# Altium footprint library SFM-115-01-L-D-LC.PcbLib: 1 footprints
Each footprint in its own frame and in the unit in brackets; x right, y up, seen from the top. Pads: shape width x height; smd on the part's side, far side on the other; paste and mask are expansions set on the pad; w line width, h text height; cw(c..) or ccw(c..) is an arc to the next point about the centre after c.
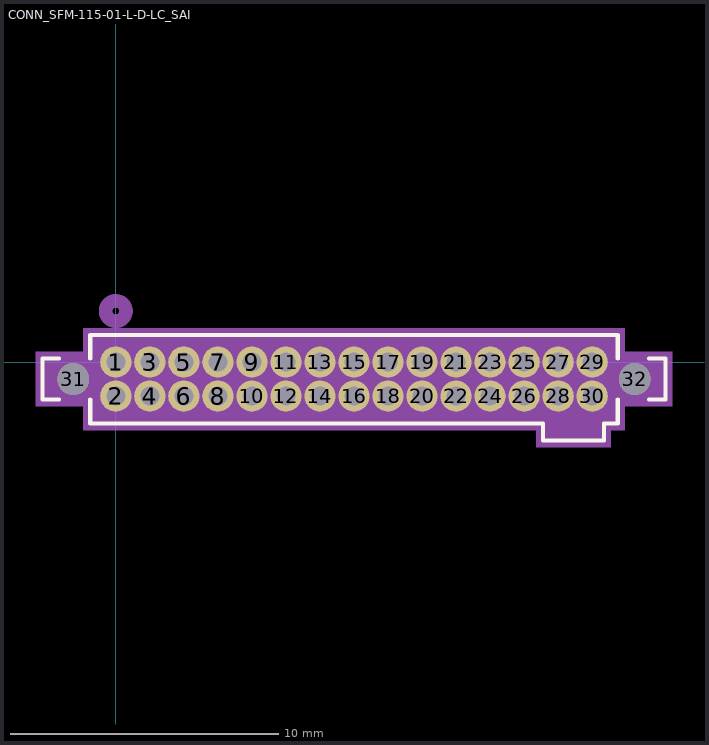
[diagram p0: the footprint, top view; thin cyan lines are the x and y axes]

## CONN_SFM-115-01-L-D-LC_SAI [mil]
pads (32):
  round 46 hole 28 mask+0: 1(0,0) 2(0,-50) 3(50,0) 4(50,-50) 5(100,0) 6(100,-50) 7(150,0) 8(150,-50) 9(200,0) 10(200,-50) 11(250,0) 12(250,-50) 13(300,0) 14(300,-50) 15(350,0) 16(350,-50) 17(400,0) 18(400,-50) 19(450,0) 20(450,-50) 21(500,0) 22(500,-50) 23(550,0) 24(550,-50) 25(600,0) 26(600,-50) 27(650,0) 28(650,-50) 29(700,0) 30(700,-50)
  round 47 hole 47 unplated: 31(-62.5,-25) 32(762.5,-25)
Top Overlay:
  lines w6: -83.47,-55 -107.5,-55 -107.5,5 -83.47,5 ; -37.5,-55 -37.5,-90 627.5,-90 627.5,-115 717.5,-115 717.5,-90 737.5,-90 737.5,-55 ; -37.5,5 -37.5,40 737.5,40 737.5,5 ; 783.47,-55 807.5,-55 807.5,5 783.47,5
Bottom Overlay:
  circle w20: c-62.5,0 r15
Mechanical 5:
  region: 747.5,-100 747.5,-65 817.5,-65 817.5,15 747.5,15 747.5,50 -47.5,50 -47.5,15 -117.5,15 -117.5,-65 -47.5,-65 -47.5,-100 617.5,-100 617.5,-125 727.5,-125 727.5,-100
Mechanical 13:
  circle w20: c0,75 r15
  lines w1: -32.5,-50 -102.5,-50 -102.5,0 -32.5,0 ; 632.5,-85 632.5,-110 712.5,-110 712.5,-85 ; 732.5,-50 802.5,-50 802.5,0 732.5,0 ; -32.5,-85 732.5,-85 732.5,35 -32.5,35 -32.5,-85
Mechanical 15:
  region: 742.5,-95 742.5,-60 812.5,-60 812.5,10 742.5,10 742.5,45 -42.5,45 -42.5,10 -112.5,10 -112.5,-60 -42.5,-60 -42.5,-95 622.5,-95 622.5,-120 722.5,-120 722.5,-95
  lines w6: -112.5,-60 -112.5,10 -42.5,10 -42.5,45 742.5,45 742.5,10 812.5,10 812.5,-60 742.5,-60 742.5,-95 722.5,-95 722.5,-120 622.5,-120 622.5,-95 -42.5,-95 -42.5,-60 -112.5,-60
3D body: height 10, standoff 0, extent 0,0 10,10